# Altium footprint library DC_DC.PcbLib: 1 footprints
Each footprint in its own frame and in the unit in brackets; x right, y up, seen from the top. Pads: shape width x height; smd on the part's side, far side on the other; paste and mask are expansions set on the pad; w line width, h text height; cw(c..) or ccw(c..) is an arc to the next point about the centre after c.
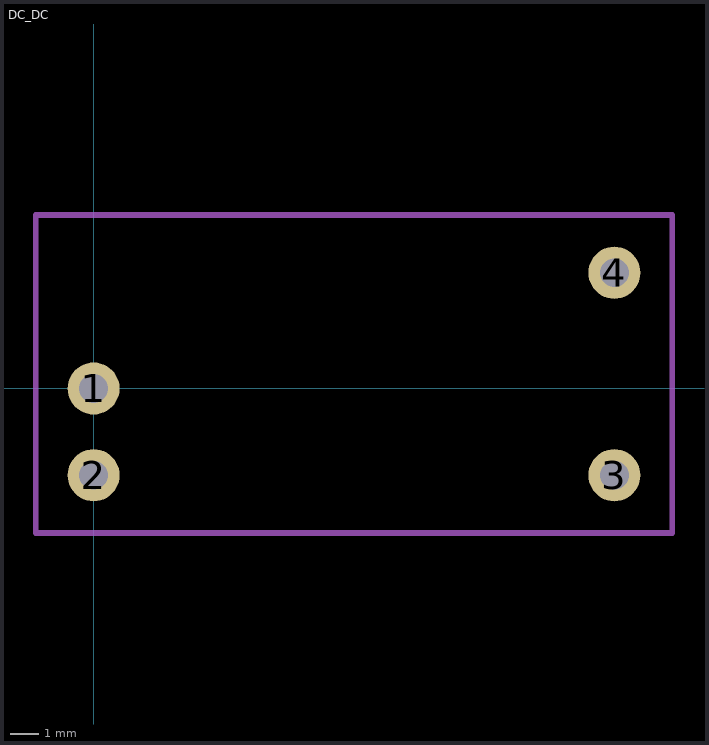
[diagram p0: the footprint, top view; thin cyan lines are the x and y axes]

## DC_DC [mm]
pads (4):
  round 1.8 hole 1: 1(0,0) 2(0,-3) 3(18,-3) 4(18,4)
Mechanical 1:
  lines w0.2: -2,-5 20,-5 20,6 -2,6 -2,-5